# Altium schematic symbol library 2020-11-22_16-49-29.SchLib: 2 symbols
Pins are listed as number, name and electrical type; pins without a type are passive.

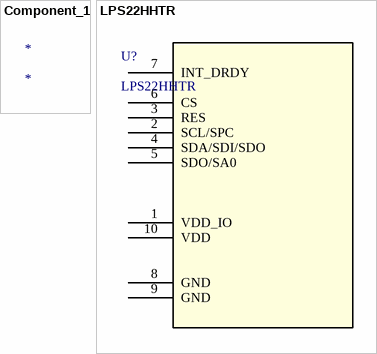
[diagram p0: symbols Component_1 to LPS22HHTR]

## Component_1
designator *

## LPS22HHTR
designator U?
No Description Available; SourceLibrary: Updates_to_database_2020-11-03; Built_By: EMA_Cory; Vendor: STMicroelectronics; Datasheet: https://www.st.com/resource/en/datasheet/lps22hh.pdf; Copyright: Copyright (C) 2018 Accelerated Designs. All rights reserved; Manufacturer_Part_Number: LPS22HHTR; RefDes: RefDes; Type: DEV
footprint HLGA-10L_2X2X0P73_STM
pins: 1 VDD_IO (power), 2 SCL/SPC, 3 RES, 4 SDA/SDI/SDO, 5 SDO/SA0, 6 CS, 7 INT_DRDY, 8 GND, 9 GND, 10 VDD (power)